# Altium schematic symbol library AP9234L.SchLib: 1 symbol
Pins are listed as number, name and electrical type; pins without a type are passive.

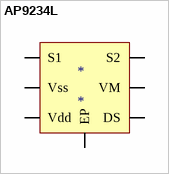
[diagram p0: symbol AP9234L]

## AP9234L
designator *
AP9234L
footprint AP9234L (SINGLE CHIP SOLUTION FOR 1-CELL Li+ BATTERY PACK)
pins: 1 S1, 2 Vss, 3 Vdd, 4 DS, 5 VM, 6 S2, 7 EP